# Altium footprint library Conn_1Row_PCB.PcbLib: 1 footprints
Each footprint in its own frame and in the unit in brackets; x right, y up, seen from the top. Pads: shape width x height; smd on the part's side, far side on the other; paste and mask are expansions set on the pad; w line width, h text height; cw(c..) or ccw(c..) is an arc to the next point about the centre after c.
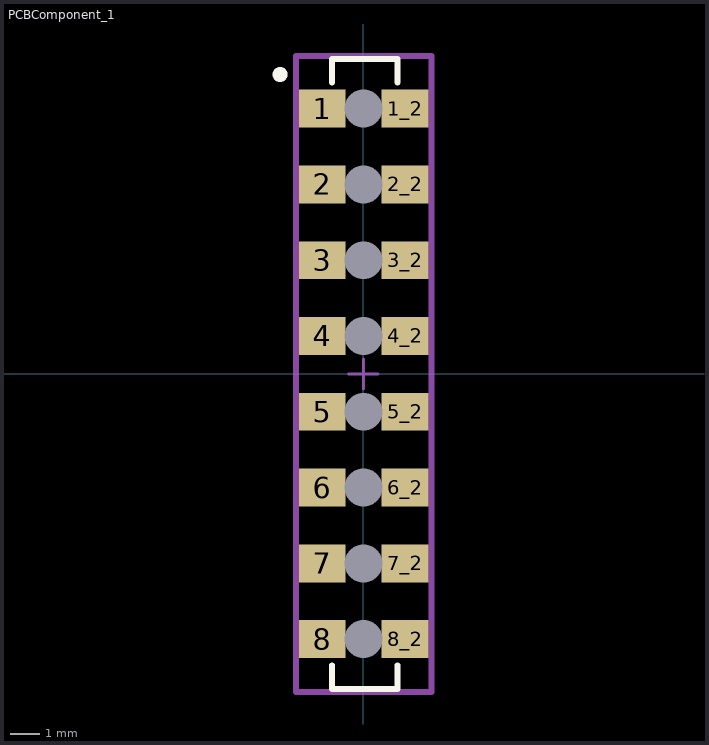
[diagram p0: the footprint, top view; thin cyan lines are the x and y axes]

## PCBComponent_1 [mm]
height 21.463
pads (24):
  rect 1.57x1.27 smd paste+0 mask+0: 1(-1.381,8.89) 1_2(1.397,8.89) 2(-1.381,6.35) 2_2(1.397,6.35) 3(-1.381,3.81) 3_2(1.397,3.81) 4(-1.381,1.27) 4_2(1.397,1.27) 5(-1.381,-1.27) 5_2(1.397,-1.27) 6(-1.381,-3.81) 6_2(1.397,-3.81) 7(-1.381,-6.35) 7_2(1.397,-6.35) 8(-1.381,-8.89) 8_2(1.397,-8.89)
  round 1.02 hole 1.27 unplated paste-1000 mask+0: ""(0,-8.89) ""(0,-6.35) ""(0,-3.81) ""(0,-1.27) ""(0,1.27) ""(0,3.81) ""(0,6.35) ""(0,8.89)
Top Overlay:
  circle w0.25: c-2.794,10.033 r0.125
  lines w0.2: -1.051,-9.765 -1.051,-10.56 1.143,-10.56 1.143,-9.765 ; -1.051,9.765 -1.051,10.56 1.143,10.56 1.143,9.765
Top Courtyard:
  lines w0.2: -2.261,-10.668 2.286,-10.668 2.286,10.66 -2.261,10.66 -2.261,-10.668
Top Assembly:
  lines w0.2: -2.261,-10.668 2.286,-10.668 2.286,10.66 -2.261,10.66 -2.261,-10.668
  text ".Designator" at 1.523,-2.54 h1
Top Component Center:
  lines w0.1: -0.508,0 0.492,0 ; 0,-0.5 0,0.5